# Altium schematic symbol library Discretes.SchLib: 19 symbols
Pins are listed as number, name and electrical type; pins without a type are passive.

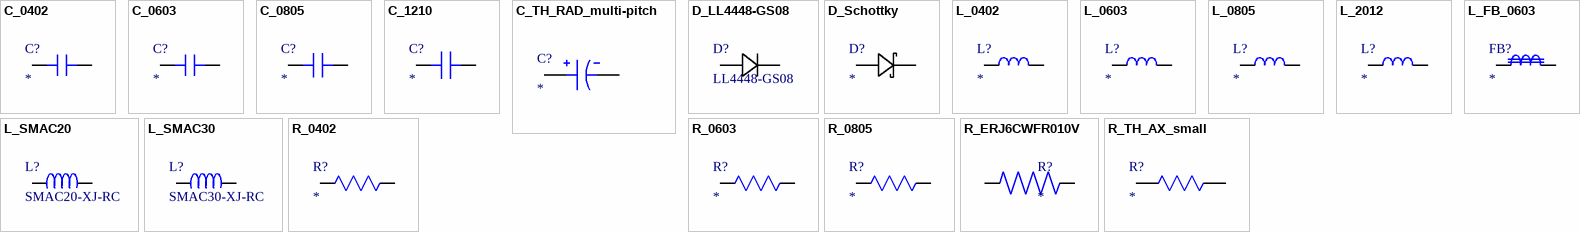
[diagram p0: symbols C_0402 to R_TH_AX_small]

## C_0402
designator C?
TDK 0402 CAP CER CGA X7R
footprint C_0402 (Chip Capacitor, 2-Leads, Body 1.00x0.48mm, IPC Medium Density)
pins: 1, 2

## C_0603
designator C?
TDK 0603 CAP CER X7R
footprint C_0603 (Chip Capacitor, 2-Leads, Body 1.55x0.85mm, IPC Medium Density)
pins: 1, 2

## C_0805
designator C?
TDK 0805 CAP CER CGA4 X7R
footprint C_0805 (Chip Capacitor, 2-Leads, Body 2.00x1.30mm, IPC Medium Density)
pins: 1, 2

## C_1210
designator C?
TDK 1210 CAP CER CGA6 X7R
footprint C_1206 (Chip Capacitor, 2-Leads, Body 3.00x1.50mm, IPC Medium Density)
pins: 1, 2

## C_TH_RAD_multi-pitch
designator C?
Electrolytic Capacitor 20% UPS; ComponentLink1Description: Digikey Search; ComponentLink1URL: https://www.digikey.com/en/products/filter/aluminum-electrolytic-capacitors/58?s=N4IgjCBcpgnAHLKoDGUBmBDANgZwKYA0IA9lANogAMIAusQA4AuUIAykwE4CWAdgOYgAvsQC0AJmQg0kLgFcipCiACsdISJCTIlAKLZ8KLiWwBPJtxQACAMKYGmFNyYlOV8VQCkVgKoAFNjpiADYpbgATVlEwKghGFkgQEGIARyZTVjiQdIZ8VkxcNA0gA
pins: 1, 2

## D_LL4448-GS08
designator D?, comment LL4448-GS08
Diode Standard 100 V 150mA Surface Mount SOD-80 MiniMELF; Mfr_Name: Vishay; Type: DEV; Copyright: Copyright (C) 2022 Ultra Librarian. All rights reserved.; Manufacturer_Part_Number: LL4448-GS08; Digi-Key_Part_Number_1: LL4448-GS08CT-ND; Digi-Key_Part_Number_2: LL4448-GS08DKR-ND; Digi-Key_Part_Number_3: LL4448-GS08TR-ND; RefDes: RefDes
footprint MELF_SOD-80_VIS
pins: 1, 2

## D_Schottky
designator D?
pins: 1, 2

## L_0402
designator L?
Coilcraft 0402DC Chip Inductor
footprint L_0402 (Chip Inductor, 2-Leads, Body 1.00x0.48mm, IPC Medium Density)
pins: 1, 2

## L_0603
designator L?
Coilcraft 0603DC Chip Inductor
footprint L_0603 (Chip Inductor, 2-Leads, Body 1.55x0.85mm, IPC Medium Density)
pins: 1, 2

## L_0805
designator L?
footprint L_0805 (Chip Inductor, 2-Leads, Body 2.00x1.30mm, IPC Medium Density)
pins: 1, 2

## L_2012
designator L?
TDK Corp ADL2012 Wirewound Inductor
footprint L_1206 (Chip Inductor, 2-Leads, Body 3.00x1.50mm, IPC Medium Density)
pins: 1, 2

## L_FB_0603
designator FB?
Murata BLM18EG Ferrite Bead 0603
footprint L_0603 (Chip Inductor, 2-Leads, Body 1.55x0.85mm, IPC Medium Density)
pins: 1, 2

## L_SMAC20
designator L?, comment SMAC20-XJ-RC
2.5-18.5nH High-Q 5% SMD Air Core Inductor
footprint SMAC20 (5% SMD Air Core Inductor)
pins: 1, 2

## L_SMAC30
designator L?, comment SMAC30-XJ-RC
17.5-43nH High-Q 5% SMD Air Core Inductor
footprint SMAC30 (5% SMD Air Core Inductor)
pins: 1, 2

## R_0402
designator R?
Yageo RC0402FR-07 1% 0402; ComponentLink1Description: Digikey search; ComponentLink1URL: https://www.digikey.com/en/products/filter/chip-resistor-surface-mount/52?s=N4IgjCBcoExaBjKAzAhgGwM4FMA0IB7KAbXAAYAOAdgE4QBdfABwBcoQBlFgJwEsA7AOYgAvvgDM8EEkhoseQiXBhxERiFbsufIaPxgYNCNGkoMOfEUilxNcTAoNmbSJx4DhY8DQp0TMuQtFaxAyJw0XNx1PfABaOH8oHgBXBStSAFYGL1jjRDN5SyUVbLisxNlzNKU4ehyAFikAqqKQigN6xzqvBNJKMgyAAm5sTF5MFgJucIA2KV4AE3ZcsghndhB8AEcWAE92NZA9pmx2VEwkEREgA
footprint R_0402 (Chip Resistor, 2-Leads, Body 1.00x0.48mm, IPC Medium Density)
pins: 1, 2

## R_0603
designator R?
Yageo RC0603FR-07 1% 0603; ComponentLink1Description: Digikey search; ComponentLink1URL: https://www.digikey.com/en/products/filter/chip-resistor-surface-mount/52?s=N4IgjCBcoExaBjKAzAhgGwM4FMA0IB7KAbXAAYAOAdgE4QBdfABwBcoQBlFgJwEsA7AOYgAvvgDM8EEkhoseQiXBhxERiFbsufIaPxgYNCNGkoMOfEUilxNcTAoNmbSJx4DhY8DQp0TMuQtFaxAyJw0XNx1PfABaOH8oHgBXBStSAFYGL1jjRDN5SyUVbLisxNlzNKU4ehyAFikAqqKQigN6xzqvBNJKMgyAAm5sTF5MFgJucIA2KV4AE3ZcsghndhB8AEcWAE92NZA9pmx2VEwkEREgA
footprint R_0603 (Chip Resistor, 2-Leads, Body 1.55x0.85mm, IPC Medium Density)
pins: 1, 2

## R_0805
designator R?
Yageo RC0805FR-07 1% 0805; ComponentLink1Description: Digikey search; ComponentLink1URL: https://www.digikey.com/en/products/filter/chip-resistor-surface-mount/52?s=N4IgjCBcoExaBjKAzAhgGwM4FMA0IB7KAbXAAYAOAdgE4QBdfABwBcoQBlFgJwEsA7AOYgAvvgDM8EEkhoseQiXBhxERiFbsufIaPxgYNCNGkoMOfEUilxNcTAoNmbSJx4DhY8DQp0TMuQtFaxAyJw0XNx1PfABaOH8oHgBXBStSAFYGL1jjRDN5SyUVbLisxNlzNKU4ehyAFikAqqKQigN6xzqvBNJKMgyAAm5sTF5MFgJucIA2KV4AE3ZcsghndhB8AEcWAE92NZA9pmx2VEwkEREgA
footprint R_0805 (Chip Resistor, 2-Leads, Body 2.00x1.30mm, IPC Medium Density)
pins: 1, 2

## R_ERJ6CWFR010V
designator R?
ERJ6CWFR010V RES 0.01 OHM 1% 1/2W 0805; Package: None; Price: None; MP: ERJ6CWFR010V; Availability: Unavailable; Supplier 1: Digi-Key; Supplier Part Number 1: P19196CT-ND
footprint R_0805
pins: 1, 2

## R_TH_AX_small
designator R?
Vishay 5% axial through-hole resistor PR0100 r500; ComponentLink1Description: Digikey search; ComponentLink1URL: https://www.digikey.com/en/products/filter/through-hole-resistors/53?s=N4IgjCBcoKxaBjKAzAhgGwM4FMA0IB7KAbRAGYwA2ATgCYIBdfABwBcoQBlVgJwEsAdgHMQAX3xha1CNBBJIaLHkIlyYAOxhqABhBMQbDt37CxE6gA5q8OSgw58RSKV37DkLr0EjxIALS0NvK8AK7KTqRwDL5%2BACxBdkqOqmAWFtpRMXCy8ooOKs4ggdG%2BlDZ8ACYcfmDaECzsHiD4AI6sAJ4c9SAdzNgcqJhIoqJAA
footprint R_TH_AX (PR01 Vishay Through-hole resistor)
pins: 1, 2